# EAGLE library part LTC3265 (library Analog Devices)
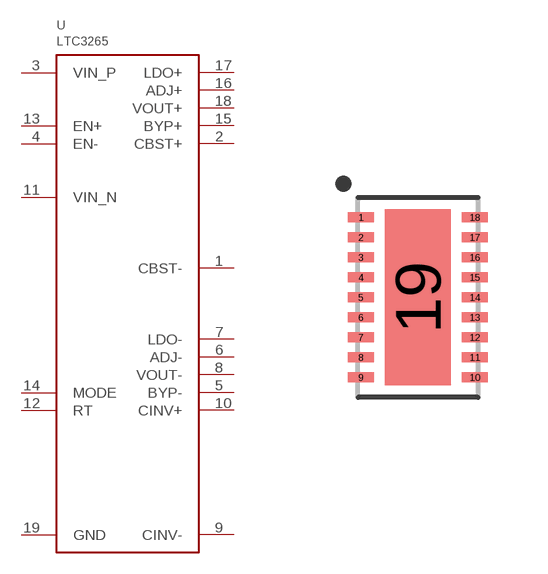
[diagram p63: symbol with the pads of DFN18; footprint DFN18]

Designator prefix U

## LTC3265DHC  [DFN18]
1  CBST-
2  CBST+
3  VIN_P
4  EN-
5  BYP-
6  ADJ-
7  LDO-
8  VOUT-
9  CINV-
10  CINV+
11  VIN_N
12  RT
13  EN+
14  MODE
15  BYP+
16  ADJ+
17  LDO+
18  VOUT+
19  GND

## Footprint DFN18 (pad centres in mm)
smd 0.65 x 0.25: 1 -1.425,2; 2 -1.425,1.5; 3 -1.425,1; 4 -1.425,0.5; 5 -1.425,0; 6 -1.425,-0.5; 7 -1.425,-1; 8 -1.425,-1.5; 9 -1.425,-2; 10 1.425,-2; 11 1.425,-1.5; 12 1.425,-1; 13 1.425,-0.5; 14 1.425,0; 15 1.425,0.5; 16 1.425,1; 17 1.425,1.5; 18 1.425,2
smd 1.65 x 4.4: 19 0,0